# EAGLE library part TPD4E001 (library aq-diode)
ESD PROTECTION ARRAY
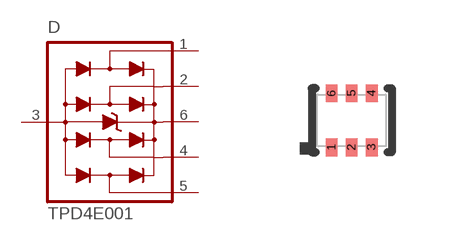
[diagram p13: symbol with the pads of SOT563; footprint SOT563]

Designator prefix D

## TPD4E001DRL  [SOT563]
1  IO1  pas
2  IO2  pas
3  GND  pas
4  IO3  pas
5  IO4  pas
6  VCC  pas

## Footprint SOT563 (pad centres in mm)
SOT-563 DRL (R-PDSO-N6)
smd 0.3 x 0.45: 1 -0.5,-0.675; 2 0,-0.675; 3 0.5,-0.675; 4 0.5,0.675; 5 0,0.675; 6 -0.5,0.675